# Altium footprint library FerritrBeads.PcbLib: 1 footprints
Each footprint in its own frame and in the unit in brackets; x right, y up, seen from the top. Pads: shape width x height; smd on the part's side, far side on the other; paste and mask are expansions set on the pad; w line width, h text height; cw(c..) or ccw(c..) is an arc to the next point about the centre after c.
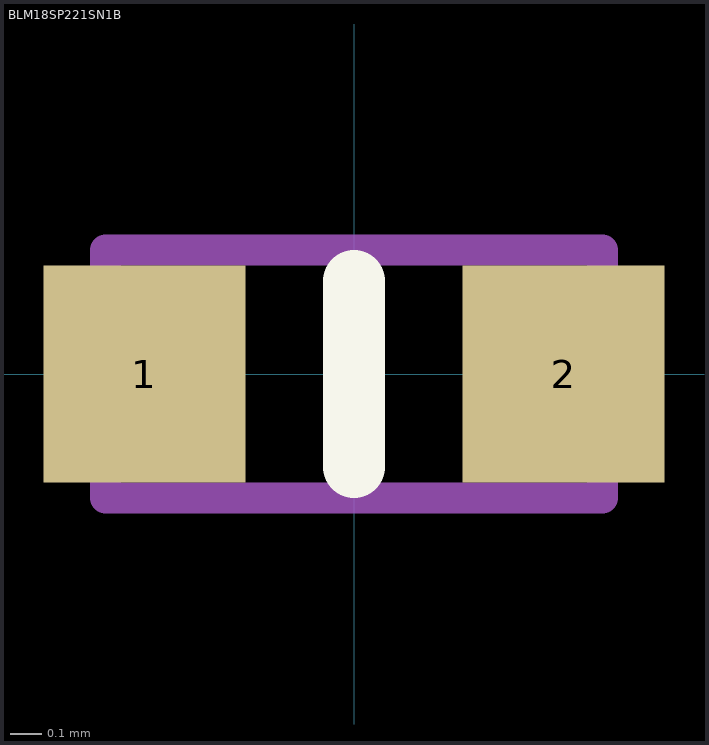
[diagram p0: the footprint, top view; thin cyan lines are the x and y axes]

## BLM18SP221SN1B [mm]
pads (2):
  rect 0.65x0.7 smd: 1(-0.675,0) 2(0.675,0)
Top Overlay:
  lines w0.2: 0,-0.3 0,0.3
Mechanical 15:
  lines w0.1: -0.8,-0.4 0.8,-0.4 0.8,0.4 -0.8,0.4 -0.8,-0.4
3D body "BLM18PG121SN1D.stp": height 0.4, standoff -0.4, extent -0.8,-0.381 0.8,0.419